# EAGLE library part NOKIA-5510-48X84 (library lcd)
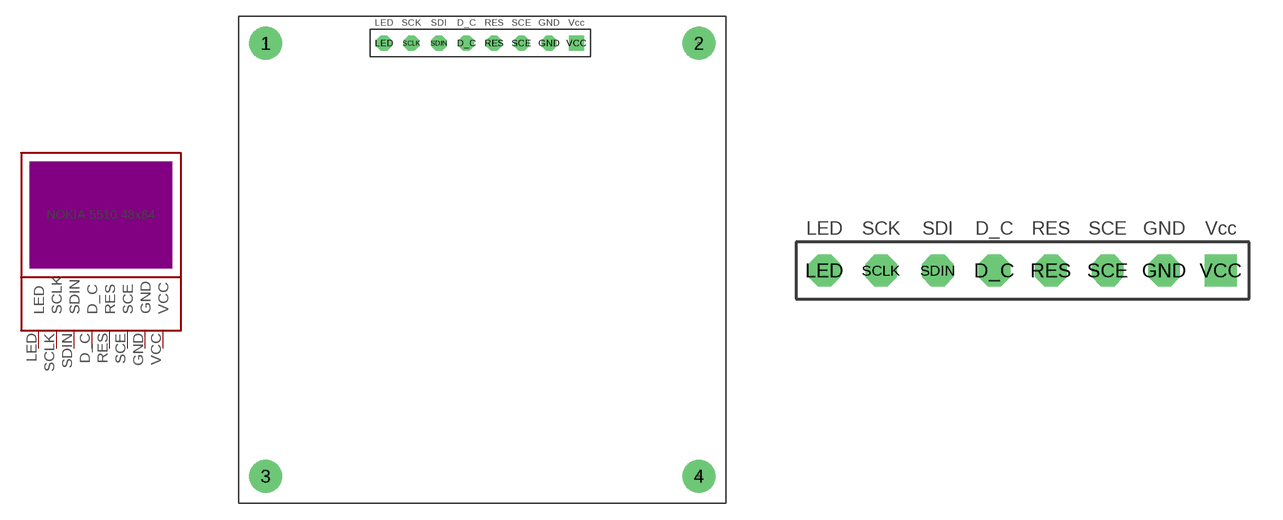
[diagram p1: symbol with the pads of MOD-LCD5110; footprints MOD-LCD5110, CONN-LCD5510]

Designator prefix -

## NOKIA-5510-48X84-MODULE  [MOD-LCD5110]
D_C  D_C  pas
GND  GND  pas
LED  LED  pas
RES  RES  pas
SCE  SCE  pas
SCLK  SCLK  pas
SDIN  SDIN  pas
VCC  VCC  pas

## NOKIA-5510-48X84-CONN  [CONN-LCD5510]
Pads as for MOD-LCD5110

## Footprint MOD-LCD5110 (pad centres in mm)
drill 2.032 pad 2.54: 1 -19.809,19.05; 2 20.19,19.05; 3 -19.809,-20.95; 4 20.19,-20.95
drill 0.9 pad 1.422 octagon: D_C -1.27,19.06; GND 6.35,19.06; LED -8.89,19.06; RES 1.27,19.06; SCE 3.81,19.06; SCLK -6.35,19.06; SDIN -3.81,19.06
drill 0.9 pad 1.422 square: VCC 8.89,19.06
hole 0.15 at -19.809,19.05
hole 0.15 at 20.19,19.05
hole 0.15 at -19.81,-20.95
hole 0.15 at 20.19,-20.95

## Footprint CONN-LCD5510 (pad centres in mm)
drill 0.9 pad 1.422 octagon: D_C -10.16,0.01; GND -2.54,0.01; LED -17.78,0.01; RES -7.62,0.01; SCE -5.08,0.01; SCLK -15.24,0.01; SDIN -12.7,0.01
drill 0.9 pad 1.422 square: VCC 0,0.01